# EAGLE library part 87340-10 (library untitled)
RECEPTACAL
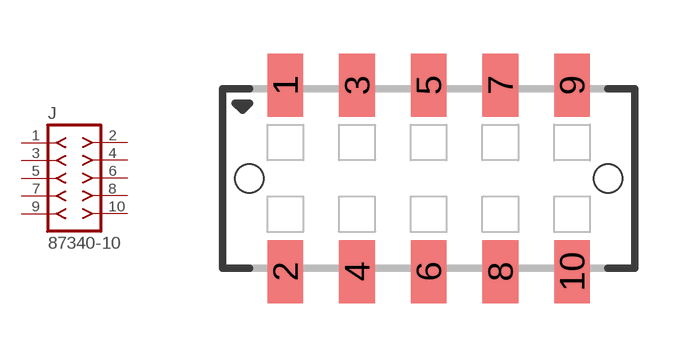
[diagram p229: symbol with the pads of 87340-10; footprint 87340-10]

Designator prefix J

## 87340-10  [87340-10]
1  1  pas
2  2  pas
3  3  pas
4  4  pas
5  5  pas
6  6  pas
7  7  pas
8  8  pas
9  9  pas
10  10  pas

## Footprint 87340-10 (pad centres in mm)
RECEPTACAL SMD Dual Row, Vertical, Low Profile
smd 1 x 1.75: 1 -4,2.6; 2 -4,-2.6; 3 -2,2.6; 4 -2,-2.6; 5 0,2.6; 6 0,-2.6; 7 2,2.6; 8 2,-2.6; 9 4,2.6; 10 4,-2.6
hole 0.8 at -5,0
hole 0.8 at 5,0